# Altium footprint library PHOENIX_1803280.PcbLib: 1 footprints
Each footprint in its own frame and in the unit in brackets; x right, y up, seen from the top. Pads: shape width x height; smd on the part's side, far side on the other; paste and mask are expansions set on the pad; w line width, h text height; cw(c..) or ccw(c..) is an arc to the next point about the centre after c.
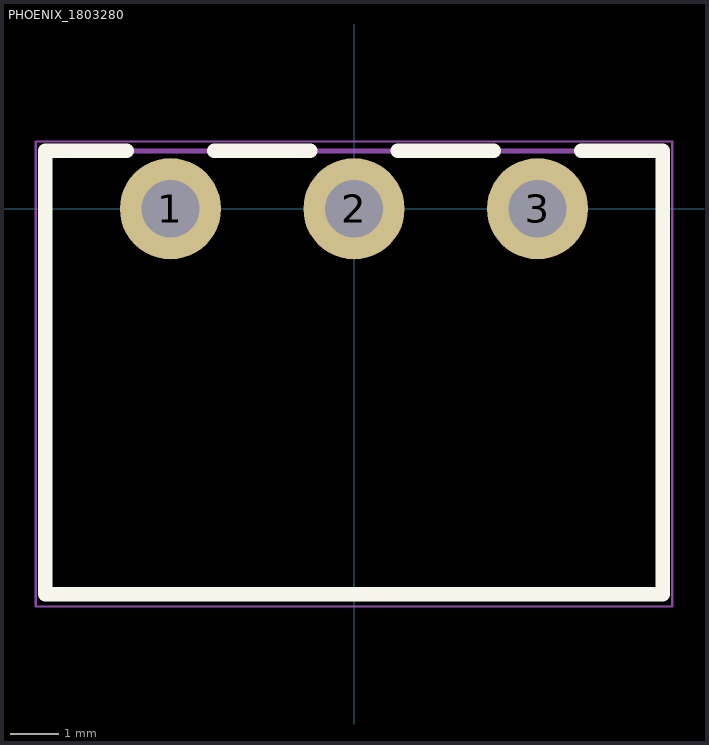
[diagram p0: the footprint, top view; thin cyan lines are the x and y axes]

## PHOENIX_1803280 [mm] "PHOENIX_1803280"
height 1.5
pads (3):
  round 2.1 hole 1.2 mask+0.05: 1(-3.81,0) 2(0,0) 3(3.81,0)
Top Overlay:
  lines w0.3: -4.72,1.2 -6.41,1.2 -6.41,-8 6.41,-8 6.41,1.2 4.72,1.2 ; -2.9,1.2 -0.91,1.2 ; 0.91,1.2 2.9,1.2
Mechanical 13:
  lines w0.1: -6.41,-8 -6.41,1.2 6.41,1.2 6.41,-8 -6.41,-8
Mechanical 15:
  lines w0.05: -6.604,-8.255 6.604,-8.255 6.604,1.397 -6.604,1.397 -6.604,-8.255
  lines w0.1: -0.5,0 0.5,0 ; 0,-0.5 0,0.5
3D body "PHOENIX_1803280.step": height 7.25, standoff -3.4, extent -6.41,-8 6.41,1.2